# Altium footprint library LCD.PcbLib: 2 footprints
Each footprint in its own frame and in the unit in brackets; x right, y up, seen from the top. Pads: shape width x height; smd on the part's side, far side on the other; paste and mask are expansions set on the pad; w line width, h text height; cw(c..) or ccw(c..) is an arc to the next point about the centre after c.
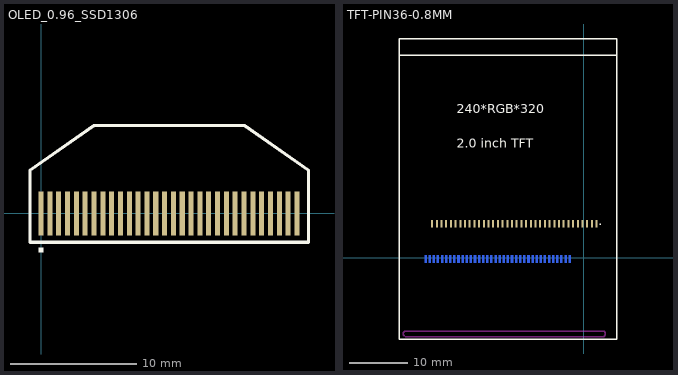
[diagram p0: the footprints below, top view; thin cyan lines are the x and y axes]

## OLED_0.96_SSD1306 [mm]
pads (30):
  rect 0.4x3.5 smd: 1(0,0) 2(0.7,0) 3(1.4,0) 4(2.1,0) 5(2.8,0) 6(3.5,0) 7(4.2,0) 8(4.9,0) 9(5.6,0) 10(6.3,0) 11(7,0) 12(7.7,0) 13(8.4,0) 14(9.1,0) 15(9.8,0) 16(10.5,0) 17(11.2,0) 18(11.9,0) 19(12.6,0) 20(13.3,0) 21(14,0) 22(14.7,0) 23(15.4,0) 24(16.1,0) 25(16.8,0) 26(17.5,0) 27(18.2,0) 28(18.9,0) 29(19.6,0) 30(20.3,0)
Top Overlay:
  rectangle: -0.2,-3.1 0.2,-2.7
  lines w0.254: -0.889,-2.286 -0.889,3.429 4.191,6.985 16.129,6.985 21.209,3.429 21.209,-2.286 -0.889,-2.286

## TFT-PIN36-0.8MM [mm]
pads (72):
  rect 0.35x1.3 smd far side: 1(-2.38,-0.258) 2(-3.08,-0.258) 3(-3.781,-0.258) 4(-4.481,-0.258) 5(-5.182,-0.258) 6(-5.883,-0.258) 7(-6.583,-0.258) 8(-7.284,-0.258) 9(-7.984,-0.258) 10(-8.685,-0.258) 11(-9.385,-0.258) 12(-10.086,-0.258) 13(-10.787,-0.258) 14(-11.487,-0.258) 15(-12.188,-0.258) 16(-12.888,-0.258) 17(-13.589,-0.258) 18(-14.29,-0.258) 19(-14.99,-0.258) 20(-15.691,-0.258) 21(-16.391,-0.258) 22(-17.092,-0.258) 23(-17.792,-0.258) 24(-18.493,-0.258) 25(-19.194,-0.258) 26(-19.894,-0.258) 27(-20.595,-0.258) 28(-21.295,-0.258) 29(-21.996,-0.258) 30(-22.697,-0.258) 31(-23.397,-0.258) 32(-24.098,-0.258) 33(-24.798,-0.258) 34(-25.499,-0.258) 35(-26.199,-0.258) 36(-26.9,-0.258)
  rect 0.35x1.3 smd: 1(2.206,5.758) 2(1.406,5.758) 3(0.606,5.758) 4(-0.194,5.758) 5(-0.994,5.758) 6(-1.794,5.758) 7(-2.594,5.758) 8(-3.394,5.758) 9(-4.194,5.758) 10(-4.994,5.758) 11(-5.794,5.758) 12(-6.594,5.758) 13(-7.394,5.758) 14(-8.194,5.758) 15(-8.994,5.758) 16(-9.794,5.758) 17(-10.593,5.758) 18(-11.393,5.758) 19(-12.193,5.758) 20(-12.993,5.758) 21(-13.793,5.758) 22(-14.593,5.758) 23(-15.393,5.758) 24(-16.193,5.758) 25(-16.993,5.758) 26(-17.793,5.758) 27(-18.593,5.758) 28(-19.393,5.758) 29(-20.193,5.758) 30(-20.993,5.758) 31(-21.793,5.758) 32(-22.593,5.758) 33(-23.393,5.758) 34(-24.193,5.758) 35(-24.993,5.758) 36(-25.793,5.758)
Top Overlay:
  lines w0.254: 2.812,5.631 2.812,5.758 ; 5.606,34.079 5.606,37.209 -31.351,37.209 -31.351,34.415 ; -31.351,34.415 5.606,34.415 5.606,-13.845 -31.351,-13.845 -31.351,34.415
  text "240*RGB*320" at -21.572,24.554 h1.52
  text "2.0 inch TFT" at -21.572,18.712 h1.52
Bottom Overlay:
  lines w0.254: -1.774,-0.258 -1.774,-0.131
Keep-Out Layer:
  lines w0.254: -30.5,-13.4 cw(c-30.05,-12.95) -30.5,-12.5 3.5,-12.5 cw(c3.05,-12.95) 3.5,-13.4 ; -30.4,-13.5 3.5,-13.5